# EAGLE library part T1M-06-F-SH-L-K (library bc_custom)
T1M 1MM TERMINAL STRIP Connector Header Surface Mount, Right Angle 6 position 0.039" (1.00mm)
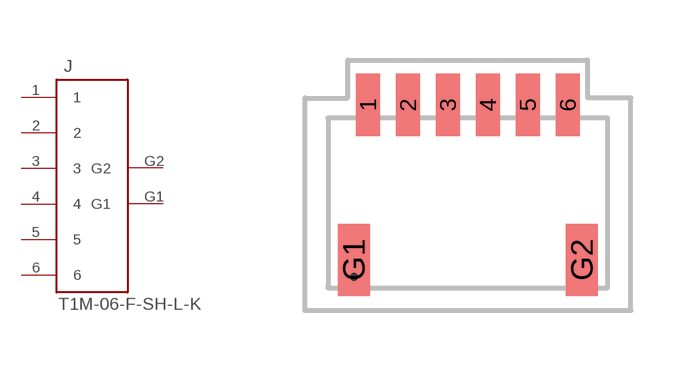
[diagram p7: symbol with the pads of T1M-06-F-SH-L-K; footprint T1M-06-F-SH-L-K]

Designator prefix J

## T1M-06-F-SH-L-K  [T1M-06-F-SH-L-K]
1  1
2  2
3  3
4  4
5  5
6  6
G1  G1
G2  G2

## Footprint T1M-06-F-SH-L-K (pad centres in mm)
smd 0.6 x 1.55: 1 -2.5,4.953; 2 -1.5,4.953; 3 -0.5,4.953; 4 0.5,4.953; 5 1.5,4.953; 6 2.5,4.953
smd 0.8 x 1.8: G1 -2.853,1.078; G2 2.853,1.078